# Altium schematic symbol library 接插杂件原理图库.SchLib: 25 symbols
Pins are listed as number, name and electrical type; pins without a type are passive.

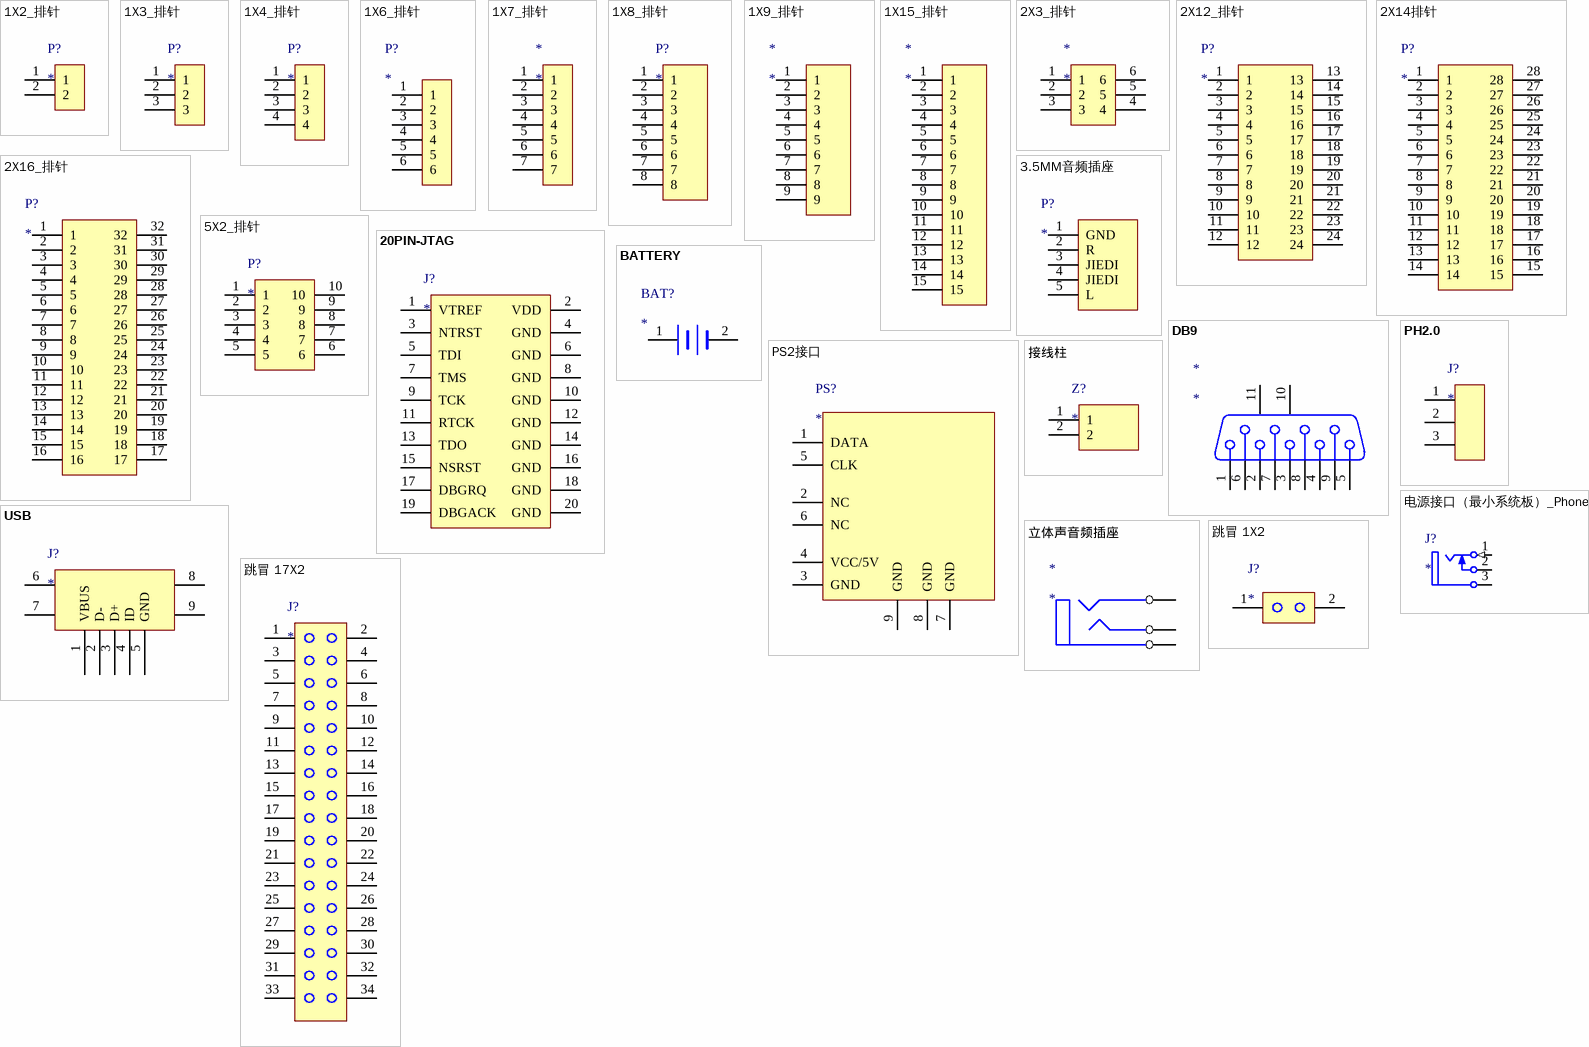
[diagram p0: symbols 1X2_排针 to 跳冒 17X2]

## 1X2_排针
designator P?
footprint Header_1x2
pins: 1, 2

## 1X3_排针
designator P?
footprint Header_1x3
pins: 1, 2, 3

## 1X4_排针
designator P?
footprint Header_1X4
pins: 1, 2, 3, 4

## 1X6_排针
designator P?
footprint HEADER_1X6
pins: 1, 2, 3, 4, 5, 6

## 1X7_排针
designator *
footprint HEADER_1X7
pins: 1, 2, 3, 4, 5, 6, 7

## 1X8_排针
designator P?
footprint Header_1X8
pins: 1, 2, 3, 4, 5, 6, 7, 8

## 1X9_排针
designator *
footprint HEADER_1X9
pins: 1, 2, 3, 4, 5, 6, 7, 8, 9

## 1X15_排针
designator *
footprint HEADER_1X15
pins: 1, 2, 3, 4, 5, 6, 7, 8, 9, 10, 11, 12, 13, 14, 15

## 2X3_排针
designator *
footprint Header_2X3
pins: 1, 2, 3, 4, 5, 6

## 2X12_排针
designator P?
footprint Header_2X12
pins: 1, 2, 3, 4, 5, 6, 7, 8, 9, 10, 11, 12, 13, 14, 15, 16, 17, 18, 19, 20, 21, 22, 23, 24

## 2X14排针
designator P?
footprint HEADER_2X14
pins: 1, 2, 3, 4, 5, 6, 7, 8, 9, 10, 11, 12, 13, 14, 15, 16, 17, 18, 19, 20, 21, 22, 23, 24, 25, 26, 27, 28

## 2X16_排针
designator P?
footprint HEADER_2X16
pins: 1, 2, 3, 4, 5, 6, 7, 8, 9, 10, 11, 12, 13, 14, 15, 16, 17, 18, 19, 20, 21, 22, 23, 24, 25, 26, 27, 28, 29, 30, 31, 32

## 3.5MM音频插座
designator P?
footprint 3.5MM 音频插座
pins: 1 GND, 2 R, 3 JIEDI, 4 JIEDI, 5 L

## 5X2_排针
designator P?
footprint 5X2_周围带套排针
pins: 1, 2, 3, 4, 5, 6, 7, 8, 9, 10

## 20PIN-JTAG
designator J?
pins: 1 VTREF, 2 VDD, 3 NTRST, 4 GND, 5 TDI, 6 GND, 7 TMS, 8 GND, 9 TCK, 10 GND, 11 RTCK, 12 GND, 13 TDO, 14 GND, 15 NSRST, 16 GND, 17 DBGRQ, 18 GND, 19 DBGACK, 20 GND

## BATTERY
designator BAT?
pins: 1 +, 2 -

## DB9
designator *
footprint DSUB1.385-2H9
pins: 1, 2, 3, 4, 5, 6, 7, 8, 9, 10 MH1, 11 MH2

## PH2.0
designator J?
pins: 1 0, 2 1, 3 2

## PS2接口
designator PS?
PS2接口
pins: 1 DATA, 2 NC, 3 GND, 4 VCC/5V, 5 CLK, 6 NC, 7 GND, 8 GND, 9 GND

## USB
designator J?
footprint FIRE_MICRO USB; pin to pad 6>6 7 7>6 7 8>8 9 9>8 9
pins: 1 VBUS, 2 D-, 3 D+, 4 ID, 5 GND, 6, 7, 8, 9

## 接线柱
designator Z?
footprint 接线柱
pins: 1, 2

## 电源接口（最小系统板）_Phonejack2 TN
designator J?
footprint DC7-12V
pins: 1 T (in) "Tip", 2 TN "Tip Normal (Break Contact)", 3 S (power) "Sleeve (Ground)"

## 立体声音频插座
designator *
footprint Model Name (Model Description)
pins: 1 A, 2 B, 3 C

## 跳冒 1X2
designator J?
footprint FIRE_2脚模块预留接口
pins: 1, 2

## 跳冒 17X2
designator J?
pins: 1, 2, 3, 4, 5, 6, 7, 8, 9, 10, 11, 12, 13, 14, 15, 16, 17, 18, 19, 20, 21, 22, 23, 24, 25, 26, 27, 28, 29, 30, 31, 32, 33, 34